# EAGLE library part SW_NAV_TSW (library we-switch)
C&K TSWB-3N-CB111-LFS central select with jog and 4 directions (dial & direction ring) white - TSWB-3N-CB111 LFS black - TSWB-3N-CB222 LFS
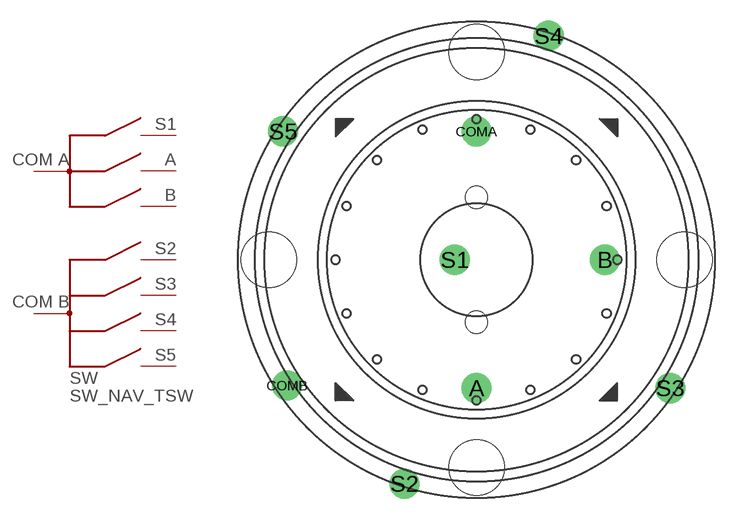
[diagram p1: symbol with the pads of TSWB3NCB111LFS; footprint TSWB3NCB111LFS]

Designator prefix SW

## SW_NAV_TSW  [TSWB3NCB111LFS]
A  A
B  B
COMA  COM_A
COMB  COM_B
S1  S1
S2  S2
S3  S3
S4  S4
S5  S5

## Footprint TSWB3NCB111LFS (pad centres in mm)
drill 1.45: A 0,-9.26; B 9.26,0; COMA 0,9.26; COMB -13.67,-9.07; S1 -1.57,0; S2 -5.2,-16.16; S3 13.97,-9.26; S4 5.2,16.16; S5 -13.97,9.26
hole 4 at -15,0
hole 4 at 15,0
hole 4 at 0,15
hole 4 at 0,-15
hole 1.6 at 0,4.5
hole 1.6 at 0,-4.5